# Altium schematic symbol library Mini-Circuits.SchLib: 22 symbols
Pins are listed as number, name and electrical type; pins without a type are passive.

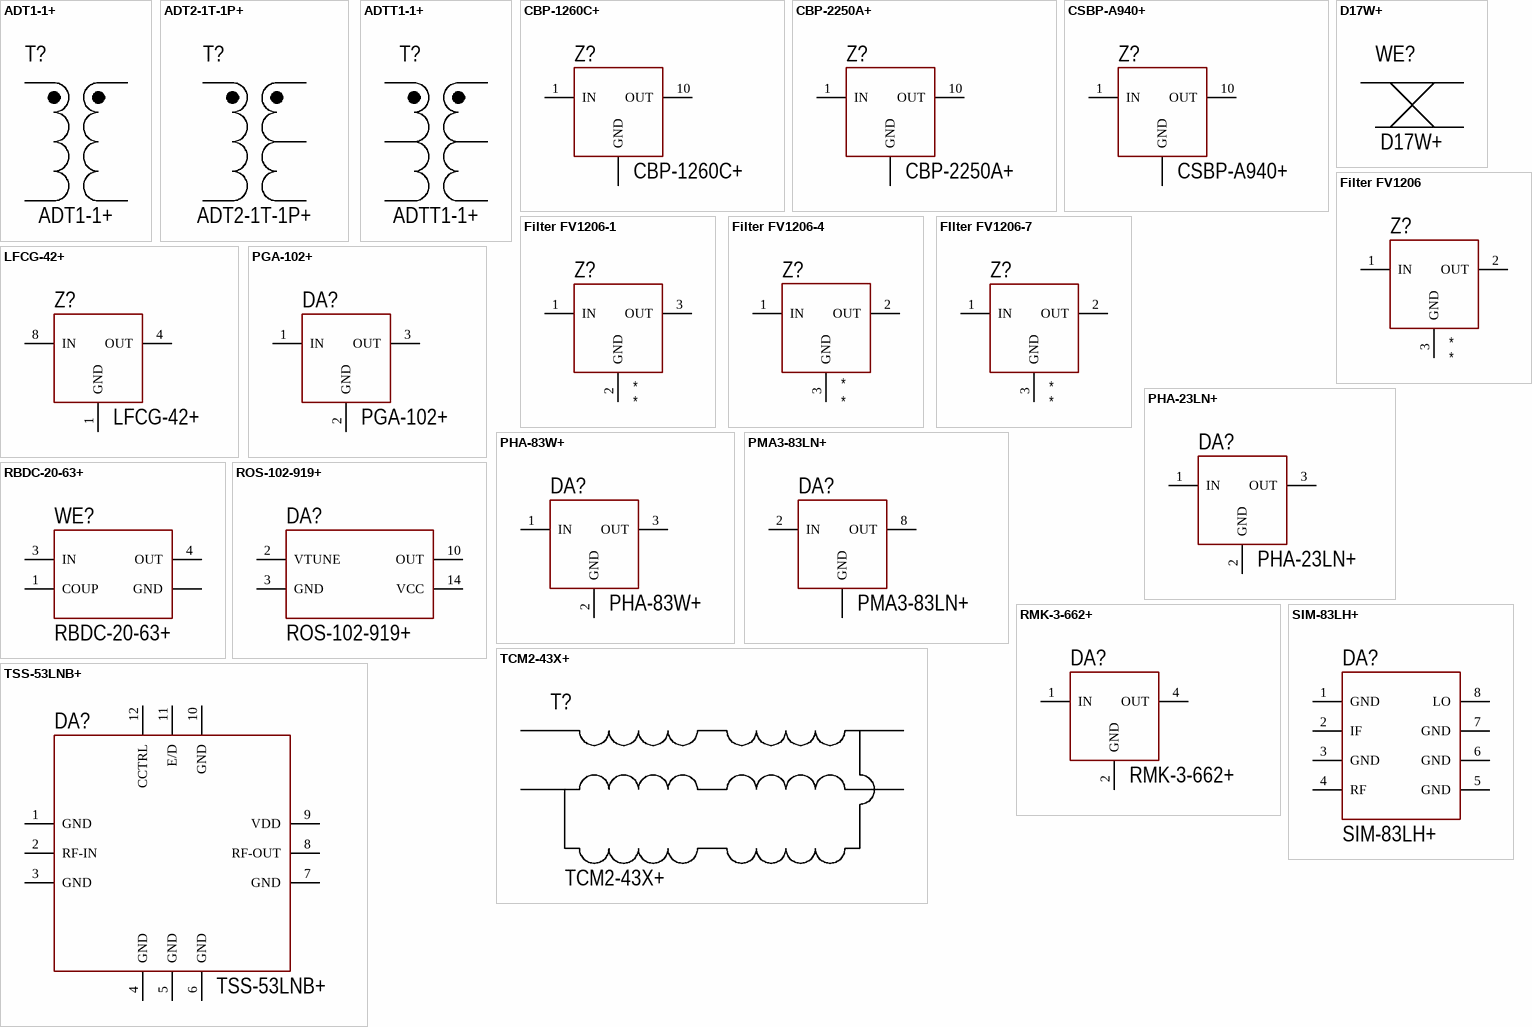
[diagram p0: symbols ADT1-1+ to TSS-53LNB+]

## ADT1-1+
designator T?
1:1 CORE & WIRE Transformer, 0.15 - 400 MHz, 50Ω
footprint CD542
pins: 1, 2 hidden to GND, 3, 4, 5 hidden to GND, 6

## ADT2-1T-1P+
designator T?
1:2 CORE & WIRE Transformer, 8 - 600 MHz, 50Ω
footprint CD542
pins: 1, 3, 4, 5, 6

## ADTT1-1+
designator T?
1:1 CORE & WIRE Transformer, 0.3 - 300 MHz, 50Ω
footprint CD542
pins: 1, 2, 3, 4, 5, 6

## CBP-1260C+
designator Z?
Ceramic Resonator Band Pass Filter, 1200 - 1320 MHz, 50Ω
footprint MP1766
pins: 1 IN, 2 GND, 3 hidden to GND, 4 hidden to GND, 5 hidden to GND, 6 hidden to GND, 7 hidden to GND, 8 hidden to GND, 9 hidden to GND, 10 OUT, 11 hidden to GND, 12 hidden to GND, 13 hidden to GND

## CBP-2250A+
designator Z?
Ceramic Resonator Band Pass Filter, 2000 - 2500 MHz, 50Ω
footprint KU1513
pins: 0 hidden to GND, 1 IN, 2 GND, 3 hidden to GND, 4 hidden to GND, 5 hidden to GND, 6 hidden to GND, 7 hidden to GND, 8 hidden to GND, 9 hidden to GND, 10 OUT, 11 hidden to GND, 12 hidden to GND, 13 hidden to GND, 14 hidden to GND, 15 hidden to GND, 16 hidden to GND

## CSBP-A940+
designator Z?
Ceramic Resonator Band Pass Filter, 880 - 1000 MHz, 50Ω
footprint KV1514
pins: 0 hidden to GND, 1 IN, 2 GND, 3 hidden to GND, 4 hidden to GND, 5 hidden to GND, 6 hidden to GND, 7 hidden to GND, 8 hidden to GND, 9 hidden to GND, 10 OUT, 11 hidden to GND, 12 hidden to GND, 13 hidden to GND, 14 hidden to GND, 15 hidden to GND, 16 hidden to GND

## D17W+
designator WE?
16-26 dB SMT Directional Coupler, 700 - 3500 MHz, 50Ω
footprint CA531
pins: 1 hidden to GND, 2 hidden to GND, 3, 4, 5 hidden to GND, 6

## Filter FV1206
designator Z?, comment *-*+  (value not drawn)
LTCC Filter, FV1206 Case; Freq: *; Type: *
footprint FV1206
pins: 1 IN, 2 OUT, 3 GND

## Filter FV1206-1
designator Z?, comment *-*+  (value not drawn)
LTCC Filter, FV1206-1 Case; Freq: *; Type: *
footprint FV1206-1
pins: 1 IN, 2 GND, 3 OUT, 4 hidden to GND, 5 hidden to GND, 6 hidden to GND

## Filter FV1206-4
designator Z?, comment *-*+  (value not drawn)
LTCC Filter, FV1206-4 Case; Freq: *; Type: *
footprint FV1206-4
pins: 1 IN, 2 OUT, 3 GND

## FIlter FV1206-7
designator Z?, comment *-*+  (value not drawn)
LTCC Filter, FV1206-7 Case; Freq: *; Type: *
footprint FV1206-7
pins: 1 IN, 2 OUT, 3 GND

## LFCG-42+
designator Z?
LTCC Low Pass Filter, DC - 435 MHz, 50Ω
footprint GE0805C-2
pins: 1 GND, 2 hidden, 3 hidden to GND, 4 OUT, 5 hidden to GND, 6 hidden, 7 hidden to GND, 8 IN

## PGA-102+
designator DA?
SMT Low Noise Amplifier, 50 - 6000 MHz, 50Ω
footprint DF782
pins: 1 IN, 2 GND, 3 OUT

## PHA-23LN+
designator DA?
SMT Low Noise Amplifier, 30 - 2000 MHz, 50Ω
footprint DF782
pins: 1 IN, 2 GND, 3 OUT

## PHA-83W+
designator DA?
SMT Gain Block, 50 - 8000 MHz, 50Ω
footprint DF782
pins: 1 IN, 2 GND, 3 OUT

## PMA3-83LN+
designator DA?
SMT Low Noise Amplifier, 500 - 8000 MHz, 50Ω
footprint DQ1225 (QFN, 12-Leads, Body 3.00x3.00mm, Pitch 0.50mm, Thermal Pad 1.45x1.45mm, IPC Medium Density)
pins: 0 hidden to GND, 1 GND, 2 IN, 3 GND (power) hidden to GND, 4 GND (power) hidden to GND, 5 GND (power) hidden to GND, 6 GND (power) hidden to GND, 7 GND (power) hidden to GND, 8 OUT, 9 GND (power) hidden to GND, 10 GND (power) hidden to GND, 11 hidden to GND, 12 hidden to GND

## RBDC-20-63+
designator WE?
20 dB SMT RF Tap Coupler, DC - 6000 MHz, 50Ω
footprint TT1224
pins: 1 COUP, 2 GND, 3 IN, 4 OUT, 5 hidden to GND, 6 hidden to GND

## RMK-3-662+
designator DA?
3X SMT Multiplier, Output Freq 4800 - 6600 MHz
footprint TT1224
pins: 1 IN, 2 GND, 4 OUT

## ROS-102-919+
designator DA?
Voltage Controlled Oscillator, 5V Tuning for PLL IC’s, 96 - 102 MHz
footprint CK605
pins: 1 hidden to GND, 2 VTUNE, 3 GND, 4 hidden to GND, 5 hidden to GND, 6 hidden to GND, 7 hidden to GND, 8 hidden to GND, 9 hidden to GND, 10 OUT, 11 hidden to GND, 12 hidden to GND, 13 hidden to GND, 14 VCC, 15 hidden to GND, 16 hidden to GND

## SIM-83LH+
designator DA?
Level 10, SMT Double Balanced Mixer, RF/LO Freq 1700 - 8000 MHz
footprint HV1195
pins: 1 GND, 2 IF, 3 GND, 4 RF, 5 GND, 6 GND, 7 GND, 8 LO

## TCM2-43X+
designator T?
1:2 CORE & WIRE Transformer, 10 - 4000 MHz, 50Ω
footprint DB1627
pins: 1 (power), 2 (power) hidden to GND, 3 (power), 4 (power), 5 (power) hidden to GND, 6 (power)

## TSS-53LNB+
designator DA?
SMT Low Noise Amplifier, 500 - 5000 MHz, 50Ω
footprint DQ1225 (QFN, 12-Leads, Body 3.00x3.00mm, Pitch 0.50mm, Thermal Pad 1.45x1.45mm, IPC Medium Density)
pins: 0 hidden to GND, 1 GND, 2 RF-IN, 3 GND, 4 GND, 5 GND, 6 GND, 7 GND, 8 RF-OUT, 9 VDD, 10 GND, 11 E/D, 12 CCTRL